# Altium footprint library PcbLib1.PcbLib: 7 footprints
Each footprint in its own frame and in the unit in brackets; x right, y up, seen from the top. Pads: shape width x height; smd on the part's side, far side on the other; paste and mask are expansions set on the pad; w line width, h text height; cw(c..) or ccw(c..) is an arc to the next point about the centre after c.
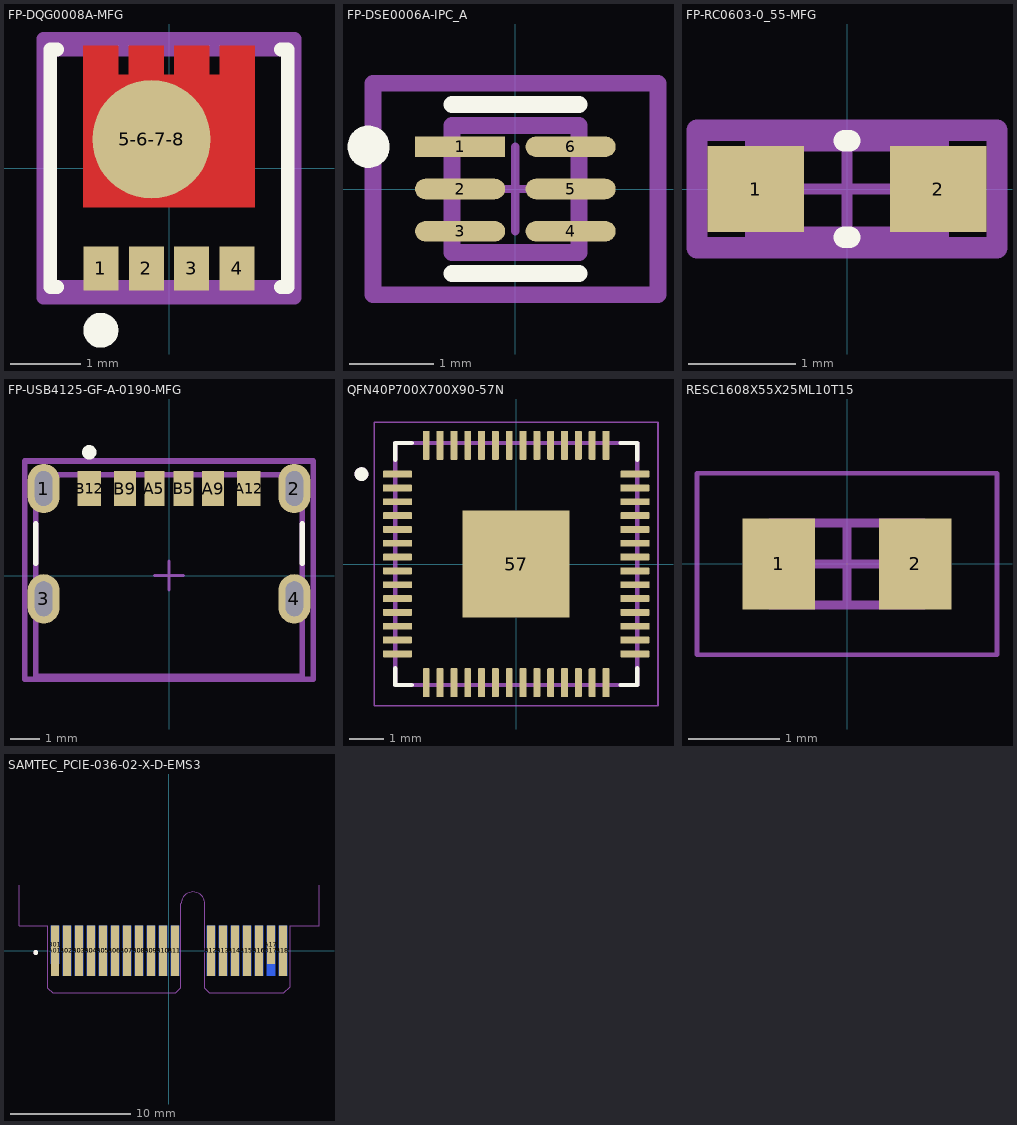
[diagram p0: the footprints below, top view; thin cyan lines are the x and y axes]

## FP-DQG0008A-MFG [mm]
pads (5):
  rect 0.5x0.63 smd paste-1000 mask+0: 1(-0.975,-1.435) 2(-0.325,-1.435) 3(0.325,-1.435) 4(0.975,-1.435)
  round 1.696 smd paste-1000 mask+0: 5-6-7-8(-0.25,0.415)
Top Layer:
  region: -1.225,-0.56 1.225,-0.56 1.225,1.75 0.725,1.75 0.725,1.34 0.575,1.34 0.575,1.75 0.075,1.75 0.075,1.34 -0.075,1.34 -0.075,1.75 -0.575,1.75 -0.575,1.34 -0.725,1.34 -0.725,1.75 -1.225,1.75
Top Overlay:
  circle w0.25: c-0.975,-2.32 r0.125
  lines w0.2: -1.6,-1.7 -1.7,-1.7 -1.7,1.7 -1.6,1.7 ; 1.6,-1.7 1.7,-1.7 1.7,1.7 1.6,1.7
Top Paste:
  rectangle: 0.805,1.21 1.145,1.66
  rectangle: 0.155,1.21 0.495,1.66
  rectangle: -0.495,1.21 -0.155,1.66
  rectangle: -1.145,1.21 -0.805,1.66
  rectangle: 0.125,-0.46 1.145,0.985
  rectangle: -1.145,-0.46 -0.125,0.985
  rectangle: 0.805,-1.66 1.145,-1.21
  rectangle: 0.155,-1.66 0.495,-1.21
  rectangle: -0.495,-1.66 -0.155,-1.21
  rectangle: -1.145,-1.66 -0.805,-1.21
Top 3D Body:
  lines w0.2: -1.7,-1.7 -1.7,1.7 1.7,1.7 1.7,-1.7 -1.7,-1.7
Top Courtyard:
  lines w0.2: -1.8,-1.85 -1.8,1.85 1.8,1.85 1.8,-1.85 -1.8,-1.85
Top Assembly:
  lines w0.2: -1.8,-1.85 -1.8,1.85 1.8,1.85 1.8,-1.85 -1.8,-1.85
  text ".Designator" at 0,0.188 h1
Top Component Center:
  lines w0.1: -0.5,0 0.5,0 ; 0,-0.5 0,0.5
3D body "Trans_Texas_Instruments_CSD17575Q3_eec.STEP": height 0.25, standoff 0, extent -1.8,-1.85 1.8,1.85

## FP-DSE0006A-IPC_A [mm]
pads (6):
  rect 1.065x0.242 smd paste+0 mask+0: 1(-0.654,0.5)
  rrect100% 1.065x0.242 smd paste+0 mask+0: 2(-0.654,0) 3(-0.654,-0.5) 4(0.654,-0.5) 5(0.654,0) 6(0.654,0.5)
Top Overlay:
  circle w0.25: c-1.736,0.5 r0.125
  lines w0.2: -0.75,-1 0.75,-1 ; -0.75,1 0.75,1
Top 3D Body:
  lines w0.2: -0.75,-0.75 0.75,-0.75 0.75,0.75 -0.75,0.75 -0.75,-0.75
Top Courtyard:
  lines w0.2: -1.686,-1.25 1.686,-1.25 1.686,1.25 -1.686,1.25 -1.686,-1.25
Top Assembly:
  lines w0.2: -1.686,-1.25 1.686,-1.25 1.686,1.25 -1.686,1.25 -1.686,-1.25
  text ".Designator" at 0,0.188 h1
Top Component Center:
  lines w0.1: -0.5,0 0.5,0 ; 0,-0.5 0,0.5
3D body "IC_Texas_Instruments_BQ29700DSET_eec.STEP": height 0.25, standoff 0, extent -1.686,-1.25 1.686,1.25

## FP-RC0603-0_55-MFG [mm]
pads (2):
  rect 0.9x0.8 smd paste+0 mask+0: 1(-0.85,0) 2(0.85,0)
Top Overlay:
  lines w0.2: -0.025,-0.45 0.025,-0.45 ; -0.025,0.45 0.025,0.45
Top 3D Body:
  lines w0.2: -0.85,-0.45 0.85,-0.45 0.85,0.45 -0.85,0.45 -0.85,-0.45
Top Courtyard:
  lines w0.2: -1.4,-0.55 1.4,-0.55 1.4,0.55 -1.4,0.55 -1.4,-0.55
Top Assembly:
  lines w0.2: -1.4,-0.55 1.4,-0.55 1.4,0.55 -1.4,0.55 -1.4,-0.55
  text ".Designator" at 0,0.188 h1
Top Component Center:
  lines w0.1: -0.5,0 0.5,0 ; 0,-0.5 0,0.5
3D body "Res_Yageo_RC0603FR-07100KL_eec.STEP": height 0.25, standoff 0, extent -1.4,-0.55 1.4,0.55

## FP-USB4125-GF-A-0190-MFG [mm]
pads (10):
  rrect100% 1.1x1.7 hole 1.2 slot 0.6 at 0 deg paste-2539.97 mask+0: 1(-4.32,3) 2(4.32,3) 3(-4.32,-0.8) 4(4.32,-0.8)
  rect 0.7x1.2 smd paste+0 mask+0: A5(-0.5,3) B5(0.5,3)
  rect 0.76x1.2 smd paste+0 mask+0: A9(1.52,3) B9(-1.52,3)
  rect 0.8x1.2 smd paste+0 mask+0: A12(2.75,3) B12(-2.75,3)
Top Overlay:
  circle w0.25: c-2.75,4.25 r0.125
  lines w0.2: -4.595,0.425 -4.595,1.775 ; 4.595,0.425 4.595,1.775
Top 3D Body:
  lines w0.2: -4.595,-3.475 -4.595,3.475 4.595,3.475 4.595,-3.475 -4.595,-3.475
Top Courtyard:
  lines w0.2: -4.97,-3.575 -4.97,3.95 4.97,3.95 4.97,-3.575 -4.97,-3.575
Top Assembly:
  lines w0.2: -4.97,-3.575 -4.97,3.95 4.97,3.95 4.97,-3.575 -4.97,-3.575
  text ".Designator" at 0,0.187 h1
Top Component Center:
  lines w0.1: -0.5,0 0.5,0 ; 0,-0.5 0,0.5
3D body "Conn_GCT_USB4125-GF-A-0190_eec.STEP": height 0.25, standoff 0, extent -4.97,-3.575 4.97,3.95

## QFN40P700X700X90-57N [mm] "rp2040"
height 0.9
pads (57):
  rrect25% 0.84x0.2 smd mask+0.05: 1(-3.435,2.6) 2(-3.435,2.2) 3(-3.435,1.8) 4(-3.435,1.4) 5(-3.435,1) 6(-3.435,0.6) 7(-3.435,0.2) 8(-3.435,-0.2) 9(-3.435,-0.6) 10(-3.435,-1) 11(-3.435,-1.4) 12(-3.435,-1.8) 13(-3.435,-2.2) 14(-3.435,-2.6) 29(3.435,-2.6) 30(3.435,-2.2) 31(3.435,-1.8) 32(3.435,-1.4) 33(3.435,-1) 34(3.435,-0.6) 35(3.435,-0.2) 36(3.435,0.2) 37(3.435,0.6) 38(3.435,1) 39(3.435,1.4) 40(3.435,1.8) 41(3.435,2.2) 42(3.435,2.6)
  rrect25% 0.2x0.84 smd mask+0.05: 15(-2.6,-3.435) 16(-2.2,-3.435) 17(-1.8,-3.435) 18(-1.4,-3.435) 19(-1,-3.435) 20(-0.6,-3.435) 21(-0.2,-3.435) 22(0.2,-3.435) 23(0.6,-3.435) 24(1,-3.435) 25(1.4,-3.435) 26(1.8,-3.435) 27(2.2,-3.435) 28(2.6,-3.435) 43(2.6,3.435) 44(2.2,3.435) 45(1.8,3.435) 46(1.4,3.435) 47(1,3.435) 48(0.6,3.435) 49(0.2,3.435) 50(-0.2,3.435) 51(-0.6,3.435) 52(-1,3.435) 53(-1.4,3.435) 54(-1.8,3.435) 55(-2.2,3.435) 56(-2.6,3.435)
  rect 3.1x3.1 smd paste-0.57 mask+0.05: 57(0,0)
Top Overlay:
  circle w0.2: c-4.475,2.6 r0.1
  lines w0.127: -3.5,-3.02 -3.5,-3.5 -3.02,-3.5 ; -3.5,3.02 -3.5,3.5 -3.02,3.5 ; 3.02,-3.5 3.5,-3.5 3.5,-3.02 ; 3.02,3.5 3.5,3.5 3.5,3.02
Mechanical 13:
  circle w0.2: c-4.475,2.6 r0.1
  lines w0.127: -3.5,-3.5 -3.5,3.5 3.5,3.5 3.5,-3.5 -3.5,-3.5
Mechanical 15:
  lines w0.05: -4.105,-4.105 -4.105,4.105 4.105,4.105 4.105,-4.105 -4.105,-4.105
3D body "QFN56_7X7_RPI.step": height 0.89, standoff 0, extent -3.505,-3.505 3.505,3.505

## RESC1608X55X25ML10T15 [mm] "Chip Resistor, 2-Leads, Body 1.70x0.90mm, IPC Low Density"
height 0.55
pads (2):
  rect 0.8x1 smd: 1(-0.75,0) 2(0.75,0)
Mechanical 13:
  lines w0.1: -0.85,-0.45 0.85,-0.45 0.85,0.45 -0.85,0.45 -0.85,-0.45
Mechanical 15:
  lines w0.05: -1.65,-1 1.65,-1 1.65,1 -1.65,1 -1.65,-1
  lines w0.1: -0.45,0 0.45,0 ; 0,-0.45 0,0.45
3D body: height 0.55, standoff 0, extent 0.6,-0.45 0.85,0.45
3D body: height 0.55, standoff 0, extent -0.85,-0.45 -0.6,0.45
3D body: height 0.55, standoff 0, extent -0.6,-0.45 0.6,0.45

## SAMTEC_PCIE-036-02-X-D-EMS3 [mm]
pads (36):
  rect 0.7x4.2 smd: A01(-9.5,0) A02(-8.5,0) A03(-7.5,0) A04(-6.5,0) A05(-5.5,0) A06(-4.5,0) A07(-3.5,0) A08(-2.5,0) A09(-1.5,0) A10(-0.5,0) A11(0.5,0) A12(3.5,0) A13(4.5,0) A14(5.5,0) A15(6.5,0) A16(7.5,0) A18(9.5,0)
  rect 0.7x3.2 smd: A17(8.5,0.508)
  rect 0.7x3.2 smd far side: B01(-9.5,0.5)
  rect 0.7x4.2 smd far side: B02(-8.5,0) B03(-7.5,0) B04(-6.5,0) B05(-5.5,0) B06(-4.5,0) B07(-3.5,0) B08(-2.5,0) B09(-1.5,0) B10(-0.5,0) B11(0.5,0) B12(3.5,0) B13(4.5,0) B14(5.5,0) B15(6.5,0) B16(7.5,0) B17(8.5,0) B18(9.5,0)
Top Overlay:
  circle w0.2: c-11.1,-0.15 r0.1
Mechanical 1:
  lines w0.1: -12.5,5.461 -12.5,2.1 -10.1,2.1 -10.1,-3.108 -9.708,-3.5 0.564,-3.5 1,-3.064 1,3.9 cw(c2,3.9) 2,4.9 cw(c2,3.9) 3,3.9 3,-3.127 3.373,-3.5 9.581,-3.5 10.1,-2.981 10.1,2.1 12.5,2.1 12.5,5.461
Mechanical 13:
  circle w0.2: c-11.1,-0.15 r0.1